# EAGLE library part ATXMEGA128B3-AU (library Skippy-IC)
8/16-bit Atmel XMEGA B3 Microcontroller,TQFP-64
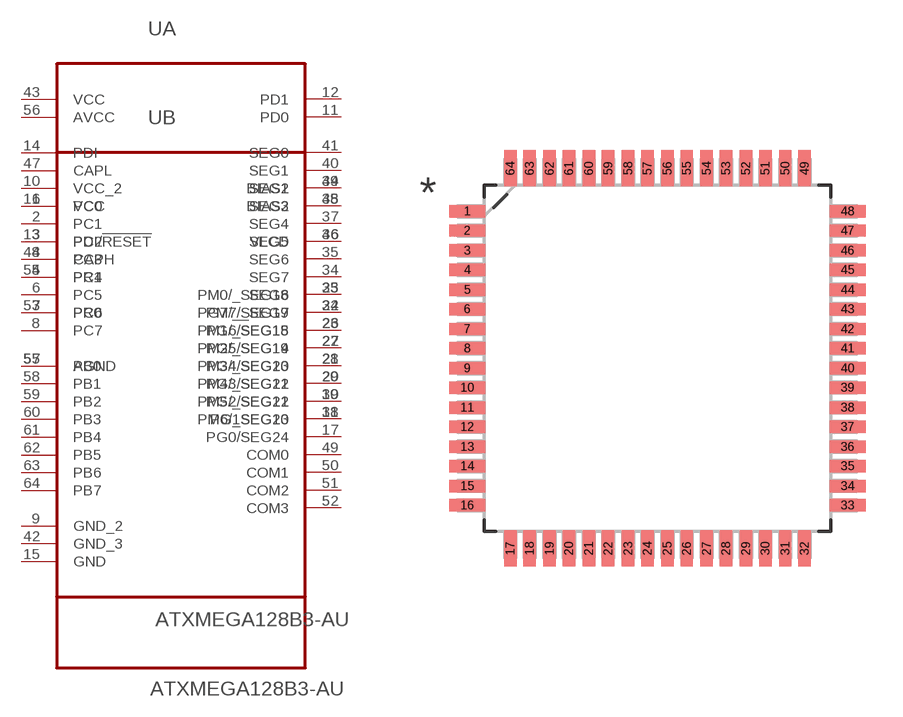
[diagram p2: symbol with the pads of QFP80P1600X1600X120-64N; footprint QFP80P1600X1600X120-64N]

Designator prefix U; gates A=ATXMEGA128B3-AU_A B=ATXMEGA128B3-AU_B

## ATXMEGA128B3-AU (MPN: ATXMEGA128B3-AU; OC_FARNELL: 2097765; OC_NEWARK: Unknown; PACKAGE: TQFP-64; SUPPLIER: ATMEL)  [QFP80P1600X1600X120-64N]
1  A:PC0
2  A:PC1
3  A:PC2
4  A:PC3
5  A:PC4
6  A:PC5
7  A:PC6
8  A:PC7
9  B:GND_2  pas
10  B:VCC_2  pwr
11  A:PD0
12  A:PD1
13  B:PDI/!RESET  in
14  A:PDI  in
15  B:GND  pas
16  B:VCC  pwr
17  A:PG0/SEG24
18  A:PG1SEG23
19  A:PG2/SEG22
20  A:PG3/SEG21
21  A:PG4/SEG20
22  A:PG5/SEG19
23  A:PG6/SEG18
24  A:PG7/_SEG17
25  A:PM0/_SEG16
26  B:PM1/_SEG15
27  B:PM2/_SEG14
28  B:PM3/_SEG13
29  B:PM4/_SEG12
30  B:PM5/_SEG11
31  B:PM6/_SEG10
32  B:PM7/_SEG9
33  B:SEG8
34  A:SEG7  out
35  A:SEG6  out
36  A:SEG5  out
37  A:SEG4  out
38  A:SEG3  out
39  A:SEG2  out
40  A:SEG1  out
41  A:SEG0  out
42  B:GND_3  out
43  A:VCC  pwr
44  B:BIAS1  out
45  B:BIAS2  out
46  B:VLCD  out
47  A:CAPL  pas
48  B:CAPH  pas
49  B:COM0  out
50  B:COM1  out
51  B:COM2  out
52  B:COM3  out
53  B:PR0
54  B:PR1
55  A:AGND  pas
56  A:AVCC  pwr
57  B:PB0
58  B:PB1
59  B:PB2
60  B:PB3
61  B:PB4
62  B:PB5
63  B:PB6
64  B:PB7

## Footprint QFP80P1600X1600X120-64N (pad centres in mm)
smd 1.473 x 0.508: 1 -7.747,5.994; 2 -7.747,5.207; 3 -7.747,4.394; 4 -7.747,3.607; 5 -7.747,2.794; 6 -7.747,2.007; 7 -7.747,1.194; 8 -7.747,0.406; 9 -7.747,-0.406; 10 -7.747,-1.194; 11 -7.747,-2.007; 12 -7.747,-2.794; 13 -7.747,-3.607; 14 -7.747,-4.394; 15 -7.747,-5.207; 16 -7.747,-5.994; 33 7.747,-5.994; 34 7.747,-5.207; 35 7.747,-4.394; 36 7.747,-3.607; 37 7.747,-2.794; 38 7.747,-2.007; 39 7.747,-1.194; 40 7.747,-0.406; 41 7.747,0.406; 42 7.747,1.194; 43 7.747,2.007; 44 7.747,2.794; 45 7.747,3.607; 46 7.747,4.394; 47 7.747,5.207; 48 7.747,5.994
smd 0.508 x 1.473: 17 -5.994,-7.747; 18 -5.207,-7.747; 19 -4.394,-7.747; 20 -3.607,-7.747; 21 -2.794,-7.747; 22 -2.007,-7.747; 23 -1.194,-7.747; 24 -0.406,-7.747; 25 0.406,-7.747; 26 1.194,-7.747; 27 2.007,-7.747; 28 2.794,-7.747; 29 3.607,-7.747; 30 4.394,-7.747; 31 5.207,-7.747; 32 5.994,-7.747; 49 5.994,7.747; 50 5.207,7.747; 51 4.394,7.747; 52 3.607,7.747; 53 2.794,7.747; 54 2.007,7.747; 55 1.194,7.747; 56 0.406,7.747; 57 -0.406,7.747; 58 -1.194,7.747; 59 -2.007,7.747; 60 -2.794,7.747; 61 -3.607,7.747; 62 -4.394,7.747; 63 -5.207,7.747; 64 -5.994,7.747